# Altium footprint library логика.PcbLib: 18 footprints (part 2 of 2)
Each footprint in its own frame and in the unit in brackets; x right, y up, seen from the top. Pads: shape width x height; smd on the part's side, far side on the other; paste and mask are expansions set on the pad; w line width, h text height; cw(c..) or ccw(c..) is an arc to the next point about the centre after c.
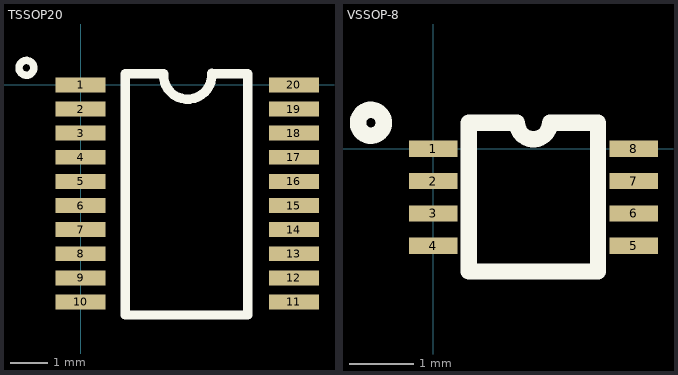
[diagram p1: the footprints below, top view; thin cyan lines are the x and y axes]

## TSSOP20 [mm]
pads (20):
  rect 1.35x0.4 smd: 1(0,0) 2(0,-0.65) 3(0,-1.3) 4(0,-1.95) 5(0,-2.6) 6(0,-3.25) 7(0,-3.9) 8(0,-4.55) 9(0,-5.2) 10(0,-5.85) 11(5.75,-5.85) 12(5.75,-5.2) 13(5.75,-4.55) 14(5.75,-3.9) 15(5.75,-3.25) 16(5.75,-2.6) 17(5.75,-1.95) 18(5.75,-1.3) 19(5.75,-0.65) 20(5.75,0)
Top Overlay:
  circle w0.2: c-1.46,0.46 r0.2
  lines w0.254: 2.2,0.3 1.2,0.3 1.2,-6.2 4.5,-6.2 4.5,0.3 3.6,0.3 ; 2.236,0.298 ccw(c2.885,0.265) 3.533,0.309

## VSSOP-8 [mm]
pads (8):
  rect 0.75x0.25 smd: 1(0,0) 2(0,-0.5) 3(0,-1) 4(0,-1.5) 5(3.1,-1.5) 6(3.1,-1) 7(3.1,-0.5) 8(3.1,0)
Top Overlay:
  circle w0.254: c-0.96,0.4 r0.2
  lines w0.25: 0.55,-1.9 2.55,-1.9 2.55,0.4 1.804,0.4 cw(c1.55,0.4) 1.296,0.4 0.55,0.4 0.55,-1.9